# EAGLE library part TCA9548A (library NaugtyBall)
TI TCA9548A I2C 8-port MUX. No intterupt. On-board RESET
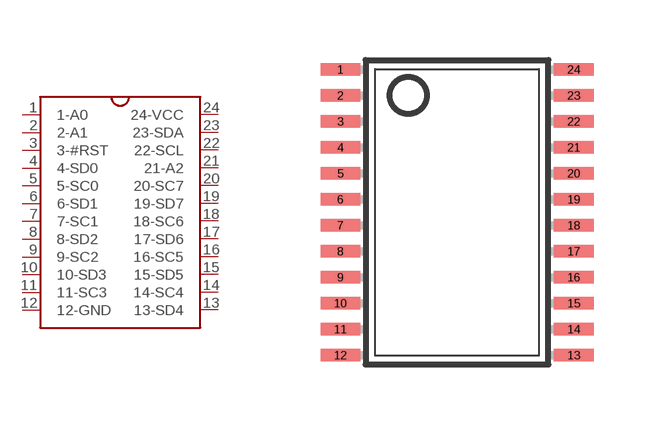
[diagram p1: symbol with the pads of TCA9548A; footprint TCA9548A]

Designator prefix MUX

## TCA9548A  [TCA9548A]
1  1-A0  in
2  2-A1  in
3  3-#RST
4  4-SD0
5  5-SC0
6  6-SD1
7  7-SC1
8  8-SD2
9  9-SC2
10  10-SD3
11  11-SC3
12  12-GND  pwr
13  13-SD4
14  14-SC4
15  15-SD5
16  16-SC5
17  17-SD6
18  18-SC6
19  19-SD7
20  20-SC7
21  21-A2
22  22-SCL
23  23-SDA
24  24-VCC  pwr

## Footprint TCA9548A (pad centres in mm)
smd 0.991 x 0.305: 1 -2.918,3.575; 2 -2.918,2.925; 3 -2.918,2.275; 4 -2.918,1.625; 5 -2.918,0.975; 6 -2.918,0.325; 7 -2.918,-0.325; 8 -2.918,-0.975; 9 -2.918,-1.625; 10 -2.918,-2.275; 11 -2.918,-2.925; 12 -2.918,-3.575; 13 2.918,-3.575; 14 2.918,-2.925; 15 2.918,-2.275; 16 2.918,-1.625; 17 2.918,-0.975; 18 2.918,-0.325; 19 2.918,0.325; 20 2.918,0.975; 21 2.918,1.625; 22 2.918,2.275; 23 2.918,2.925; 24 2.918,3.575